# EAGLE library part CRUMB644-NET_EXT (library chip45_EagleLib_090813)
Crumb644-NET V2.1 Crumb644-NET V2.1 is a higly integrated rapid prototyping module with the ATmega644 AVR microcontroller by Atmel.
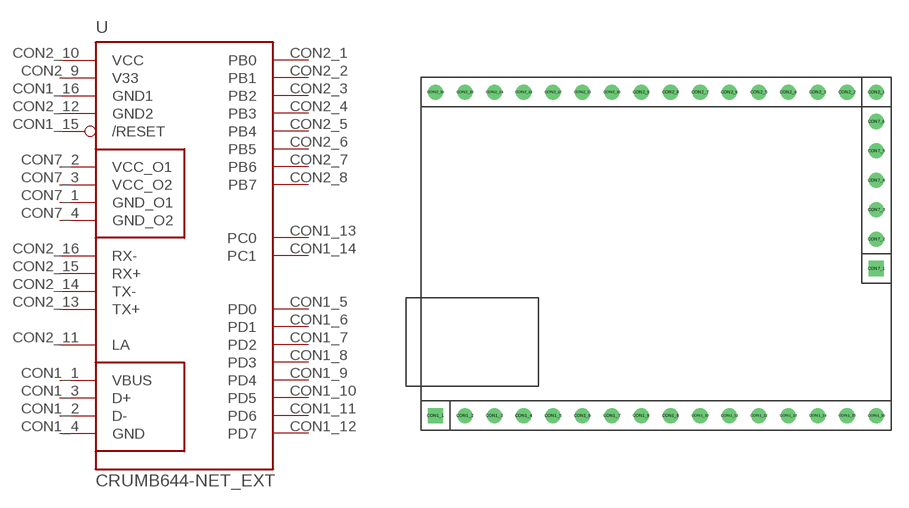
[diagram p8: symbol with the pads of CRUMB644-NET_EXT; footprint CRUMB644-NET_EXT]

Designator prefix -

## CRUMB644-NET_EXT (EEPROM: 4 kB; FLASH: 64 kB; PERIPHERALS: CP2201 ethernet controller, ethernet transformer - link LED, CP2102 USB-UART converter, mini USB B 5pin connector, status LEDs, 3.3V LDO regulator, 1MByte data flash; PROCESSOR: ATmega644P; RAM: 4 kB SRAM)  [CRUMB644-NET_EXT]
CON1_1  VBUS  in
CON1_2  D-
CON1_3  D+
CON1_4  GND  in
CON1_5  PD0
CON1_6  PD1
CON1_7  PD2
CON1_8  PD3
CON1_9  PD4
CON1_10  PD5
CON1_11  PD6
CON1_12  PD7
CON1_13  PC0
CON1_14  PC1
CON1_15  /RESET  in
CON1_16  GND1  pwr
CON2_1  PB0
CON2_2  PB1
CON2_3  PB2
CON2_4  PB3
CON2_5  PB4
CON2_6  PB5
CON2_7  PB6
CON2_8  PB7
CON2_9  V33  in
CON2_10  VCC  pwr
CON2_11  LA
CON2_12  GND2  pwr
CON2_13  TX+  out
CON2_14  TX-  out
CON2_15  RX+  in
CON2_16  RX-  in
CON7_1  GND_O1
CON7_2  VCC_O1
CON7_3  VCC_O2
CON7_4  GND_O2

## Footprint CRUMB644-NET_EXT (pad centres in mm)
Crumb644-NET Crumb644-NET offers extensive equipment on just 40x30mm size: the ATmega644 microcontroller, 10Mbit ethernet interface with CP2201 ethernet controller, 3.3V voltage regulator (for ethernet controller), 12 bit ADC with 4 channels, 4Mbit serial data flash, standard 6-pin AVR ISP connector, 20MHz clock crystal, status LEDs (1x ethernet link/activity, 2x free programmable), pin headers with unused ATmega644 signals, ADC inputs and ethernetsignals and footprint for RJ45 jack.
drill 0.8 square: CON1_1 -16.51,-15.24; CON7_1 21.59,-2.54
drill 0.8 round: CON1_2 -13.97,-15.24; CON1_3 -11.43,-15.24; CON1_4 -8.89,-15.24; CON1_5 -6.35,-15.24; CON1_6 -3.81,-15.24; CON1_7 -1.27,-15.24; CON1_8 1.27,-15.24; CON1_9 3.81,-15.24; CON1_10 6.35,-15.24; CON1_11 8.89,-15.24; CON1_12 11.43,-15.24; CON1_13 13.97,-15.24; CON1_14 16.51,-15.24; CON1_15 19.05,-15.24; CON1_16 21.59,-15.24; CON2_1 21.59,12.7; CON2_2 19.05,12.7; CON2_3 16.51,12.7; CON2_4 13.97,12.7; CON2_5 11.43,12.7; CON2_6 8.89,12.7; CON2_7 6.35,12.7; CON2_8 3.81,12.7; CON2_9 1.27,12.7; CON2_10 -1.27,12.7; CON2_11 -3.81,12.7; CON2_12 -6.35,12.7; CON2_13 -8.89,12.7; CON2_14 -11.43,12.7; CON2_15 -13.97,12.7; CON2_16 -16.51,12.7; CON7_2 21.59,0; CON7_3 21.59,2.54; CON7_4 21.59,5.08; CON7_5 21.59,7.62; CON7_6 21.59,10.16